# Altium footprint library PcbLib2.PcbLib: 1 footprints
Each footprint in its own frame and in the unit in brackets; x right, y up, seen from the top. Pads: shape width x height; smd on the part's side, far side on the other; paste and mask are expansions set on the pad; w line width, h text height; cw(c..) or ccw(c..) is an arc to the next point about the centre after c.
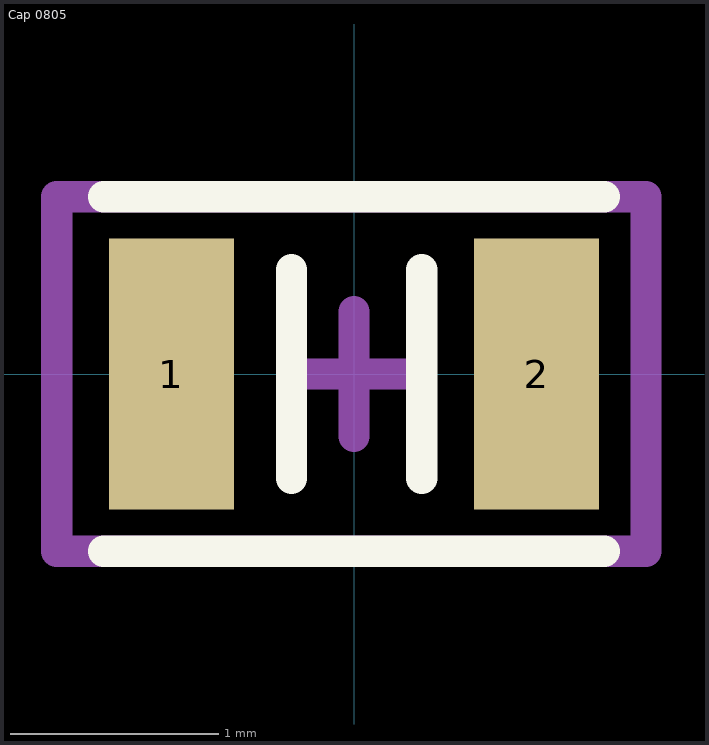
[diagram p0: the footprint, top view; thin cyan lines are the x and y axes]

## Cap 0805 [mm]
pads (2):
  rect 0.6x1.3 smd: 1(-0.875,0) 2(0.875,0)
Top Overlay:
  lines w0.15: -1.2,-0.85 1.2,-0.85 ; -1.2,0.85 1.2,0.85 ; -0.3,-0.5 -0.3,0.5 ; 0.325,-0.5 0.325,0.5
Mechanical 15:
  lines w0.15: -0.3,0 0.3,0 ; 0,-0.3 0,0.3 ; -1.425,-0.85 1.4,-0.85 1.4,0.85 -1.425,0.85 -1.425,-0.85
3D body: height 0.8, standoff 0, extent -1,-0.6 -0.4,0.6
3D body: height 0.8, standoff 0, extent -0.4,-0.6 0.4,0.6
3D body: height 0.8, standoff 0, extent 0.4,-0.6 1,0.6